# Altium footprint library TF_PUSH.PcbLib: 1 footprints
Each footprint in its own frame and in the unit in brackets; x right, y up, seen from the top. Pads: shape width x height; smd on the part's side, far side on the other; paste and mask are expansions set on the pad; w line width, h text height; cw(c..) or ccw(c..) is an arc to the next point about the centre after c.
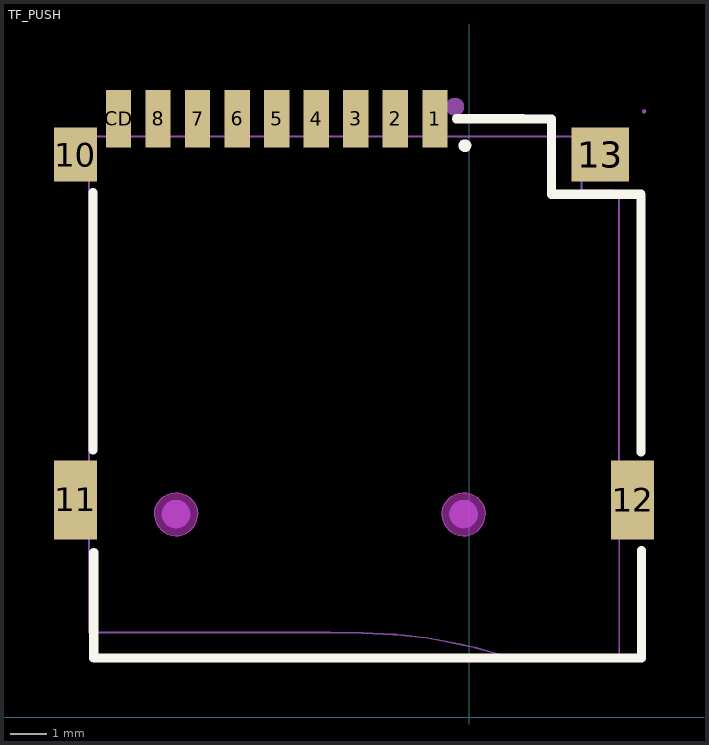
[diagram p0: the footprint, top view; thin cyan lines are the x and y axes]

## TF_PUSH [mil]
pads (13):
  rect 27.6x63 smd: 1(-37.7,655.6) 2(-81,655.6) 3(-124.3,655.6) 4(-167.6,655.6) 5(-210.9,655.6) 6(-254.2,655.6) 7(-297.5,655.6) 8(-340.8,655.6) CD(-384.1,655.6)
  rect 47.2x59.1 smd: 10(-431.4,616.2)
  rect 47.2x86.6 smd: 11(-431.4,238.2) 12(178.9,238.2)
  rect 63x59.1 smd: 13(143.4,616.2)
Top Overlay:
  lines w10: -412.1,293 -412.1,574.8 ; -411.3,180.7 -411.3,65 188.7,65 188.7,182.7 ; -14.1,655.6 58.9,655.6 ; 58.9,655.5 89.9,655.5 89.9,572.8 90.3,572.9 ; 89.9,572.9 187.9,572.9 187.9,290.6 ; -6.7,625.5 -6.1,624.5 -5,624.1 -3.9,624.2 -3,625 -2.7,626.1 -3,627.2 -3.9,628 -5,628.1 -6.1,627.7 -6.7,626.7 -6.7,625.5
Keep-Out Layer:
  board cut-out: -297.5,222.5 -297.9,218.3 -299,214.2 -300.9,210.4 -303.3,206.9 -306.4,204 -309.9,201.7 -313.8,200 -318,199.1 -322.2,198.9 -326.4,199.5 -330.4,200.8 -334.2,202.8 -337.5,205.4 -340.2,208.6 -342.4,212.2 -343.9,216.2 -344.7,220.4 -344.7,224.6 -343.9,228.8 -342.4,232.7 -340.2,236.4 -337.5,239.6 -334.2,242.2 -330.4,244.2 -326.4,245.5 -322.2,246.1 -318,245.9 -313.8,244.9 -309.9,243.3 -306.4,240.9 -303.3,238 -300.9,234.6 -299,230.8 -297.9,226.7
  board cut-out: 17.4,222.5 17.1,218.3 15.9,214.2 14.1,210.4 11.6,206.9 8.6,204 5,201.7 1.1,200 -3,199.1 -7.2,198.9 -11.4,199.5 -15.5,200.8 -19.2,202.8 -22.5,205.4 -25.3,208.6 -27.5,212.2 -28.9,216.2 -29.7,220.4 -29.7,224.6 -28.9,228.8 -27.5,232.7 -25.3,236.4 -22.5,239.6 -19.2,242.2 -15.5,244.2 -11.4,245.5 -7.2,246.1 -3,245.9 1.1,244.9 5,243.3 8.6,240.9 11.6,238 14.1,234.6 15.9,230.8 17.1,226.7
Keep-Out Layer:
  drawing of 74 lines, arcs and shapes, not listed
Mechanical 1:
  lines w0.1: -344.7,220.4 -343.9,216.2 -342.4,212.2 -340.2,208.6 -337.5,205.4 -334.2,202.8 -330.4,200.8 -326.4,199.5 -322.2,198.9 -318,199.1 -313.8,200 -309.9,201.7 -306.4,204 -303.3,206.9 -300.9,210.4 -299,214.2 -297.9,218.3 -297.5,222.5 -297.9,226.7 -299,230.8 -300.9,234.6 -303.3,238 -306.4,240.9 -309.9,243.3 -313.8,244.9 -318,245.9 -322.2,246.1 -326.4,245.5 -330.4,244.2 -334.2,242.2 -337.5,239.6 -340.2,236.4 -342.4,232.7 -343.9,228.8 -344.7,224.6 -344.7,220.4 ; -29.7,220.4 -28.9,216.2 -27.5,212.2 -25.3,208.6 -22.5,205.4 -19.2,202.8 -15.5,200.8 -11.4,199.5 -7.2,198.9 -3,199.1 1.1,200 5,201.7 8.6,204 11.6,206.9 14.1,210.4 15.9,214.2 17.1,218.3 17.4,222.5 17.1,226.7 15.9,230.8 14.1,234.6 11.6,238 8.6,240.9 5,243.3 1.1,244.9 -3,245.9 -7.2,246.1 -11.4,245.5 -15.5,244.2 -19.2,242.2 -22.5,239.6 -25.3,236.4 -27.5,232.7 -28.9,228.8 -29.7,224.6 -29.7,220.4
Mechanical 2:
  lines w10: -20.6,668.5 -20.2,666.6 -19.2,665 -17.5,663.9 -15.6,663.5 -13.7,663.9 -12.1,665 -11,666.6 -10.6,668.5 -11,670.5 -12.1,672.1 -13.7,673.2 -15.6,673.5 -17.5,673.2 -19.2,672.1 -20.2,670.5 -20.6,668.5
  lines w15.7: -329,222.5 -328.6,220 -327.5,217.9 -325.8,216.1 -323.6,215 -321.1,214.6 -318.7,215 -316.5,216.1 -314.8,217.9 -313.6,220 -313.3,222.5 -313.6,224.9 -314.8,227.1 -316.5,228.9 -318.7,230 -321.1,230.4 -323.6,230 -325.8,228.9 -327.5,227.1 -328.6,224.9 -329,222.5 ; -14.1,222.5 -13.7,220 -12.5,217.9 -10.8,216.1 -8.6,215 -6.2,214.6 -3.7,215 -1.5,216.1 0.2,217.9 1.3,220 1.7,222.5 1.3,224.9 0.2,227.1 -1.5,228.9 -3.7,230 -6.2,230.4 -8.6,230 -10.8,228.9 -12.5,227.1 -13.7,224.9 -14.1,222.5
Mechanical 6:
  lines w2: -444,207 -416.4,207 -416.4,92.8 -376.3,92.8 -223.7,93.1 -193,92.9 -151.8,93 -120.8,92.6 -117.1,92.5 -83.3,90.9 -80.5,90.6 -74.8,89.9 -70.6,89.6 -53.8,87.8 -47.1,87.2 -32.6,84.5 -6.3,79.2 -1.2,78 5.6,76.7 8.1,76 26.3,70.8 36.8,67.9 46.5,65.2 46.6,65.3 164.3,65.3 164.3,207 191.4,207 191.5,207 191.5,269.9 191.4,270 163.9,270 163.9,573.1 158.4,573.1 158.3,577 123,577 122.9,596.7 156.5,596.7 156.5,636.1 156.4,636.1 -444,636.1 -444,596.7 -416.4,596.7 -416.4,270 -444,270 -444,207
Mechanical 8:
  region: 193.8,663.6 193.4,662.4 192.4,661.5 191.1,661.3 189.9,661.8 189.2,663 189.2,664.3 189.9,665.4 191.1,666 192.4,665.8 193.4,664.9
Mechanical 9:
  region: -390,663.6 -378.2,663.6 -378.2,636.1 -390,636.1
  region: -346.7,663.6 -334.9,663.6 -334.9,636.1 -346.7,636.1
  region: -303.4,663.6 -291.6,663.6 -291.6,636.1 -303.4,636.1
  region: -260.1,663.6 -248.3,663.6 -248.3,636.1 -260.1,636.1
  region: -216.8,663.6 -205,663.6 -205,636.1 -216.8,636.1
  region: -173.5,663.6 -161.7,663.6 -161.7,636.1 -173.5,636.1
  region: -130.2,663.6 -118.4,663.6 -118.4,636.1 -130.2,636.1
  region: -86.9,663.6 -75.1,663.6 -75.1,636.1 -86.9,636.1
  region: -43.6,663.6 -31.8,663.6 -31.8,636.1 -43.6,636.1
  region: -416.4,596.7 -443.9,596.7 -444,636.1 -416.9,636.1 -417,624
  region: 128.9,596.7 156.4,596.7 156.5,636 129.4,636.1 128.4,636.1 128.5,634 128.6,630.8 128.6,624
  region: -416.4,207 -416.4,269.9 -443.9,269.9 -444,207 -441.6,207
  region: 191.4,207.1 191.4,270 163.9,270 163.8,207.1 166.2,207.1